# EAGLE library part 42TL016-RC (library _RoweTel)
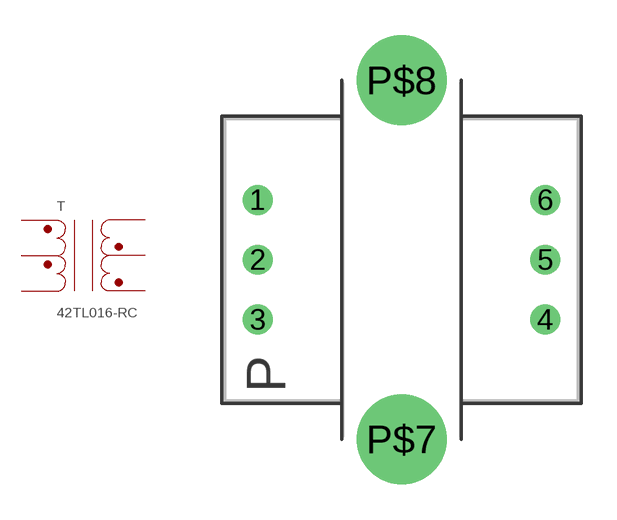
[diagram p62: symbol with the pads of 42TL016-R; footprint 42TL016-R]

Designator prefix T

## 42TL016-RC  [42TL016-R]
1  1  pas
2  2
3  3  pas
4  4  pas
5  5
6  6  pas

## Footprint 42TL016-R (pad centres in mm)
drill 0.6 pad 1.27: 1 -6.096,2.54; 2 -6.096,0; 3 -6.096,-2.54; 4 6.096,-2.54; 5 6.096,0; 6 6.096,2.54
drill 2 pad 3.81: P$7 0,-7.62; P$8 0,7.62